# EAGLE library part PIC16F18446 (library PIC-parts)
PIC 16F18313
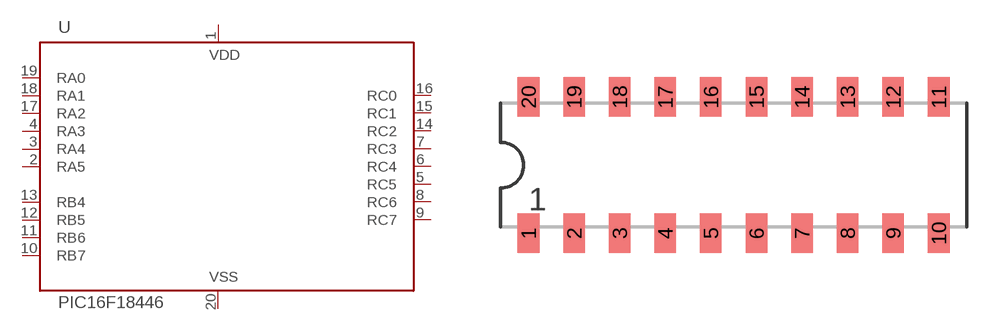
[diagram p3: symbol with the pads of DIP20; footprint DIP20]

Designator prefix -

## PIC16F18446  [DIP20]
1  VDD  pwr
2  RA5
3  RA4
4  RA3  in
5  RC5
6  RC4
7  RC3
8  RC6
9  RC7
10  RB7
11  RB6
12  RB5
13  RB4
14  RC2
15  RC1
16  RC0
17  RA2
18  RA1
19  RA0
20  VSS  pwr

## Footprint DIP20 (pad centres in mm)
SMD DIL20 dual in line package
smd 1.2 x 2.2: 1 -11.43,-3.8; 2 -8.89,-3.8; 3 -6.35,-3.8; 4 -3.81,-3.8; 5 -1.27,-3.8; 6 1.27,-3.8; 7 3.81,-3.8; 8 6.35,-3.8; 9 8.89,-3.8; 10 11.43,-3.8; 11 11.43,3.8; 12 8.89,3.8; 13 6.35,3.8; 14 3.81,3.8; 15 1.27,3.8; 16 -1.27,3.8; 17 -3.81,3.8; 18 -6.35,3.8; 19 -8.89,3.8; 20 -11.43,3.8